# Altium footprint library MicroSMD_50P_V.PcbLib: 85 footprints (part 1 of 7)
Each footprint in its own frame and in the unit in brackets; x right, y up, seen from the top. Pads: shape width x height; smd on the part's side, far side on the other; paste and mask are expansions set on the pad; w line width, h text height; cw(c..) or ccw(c..) is an arc to the next point about the centre after c.
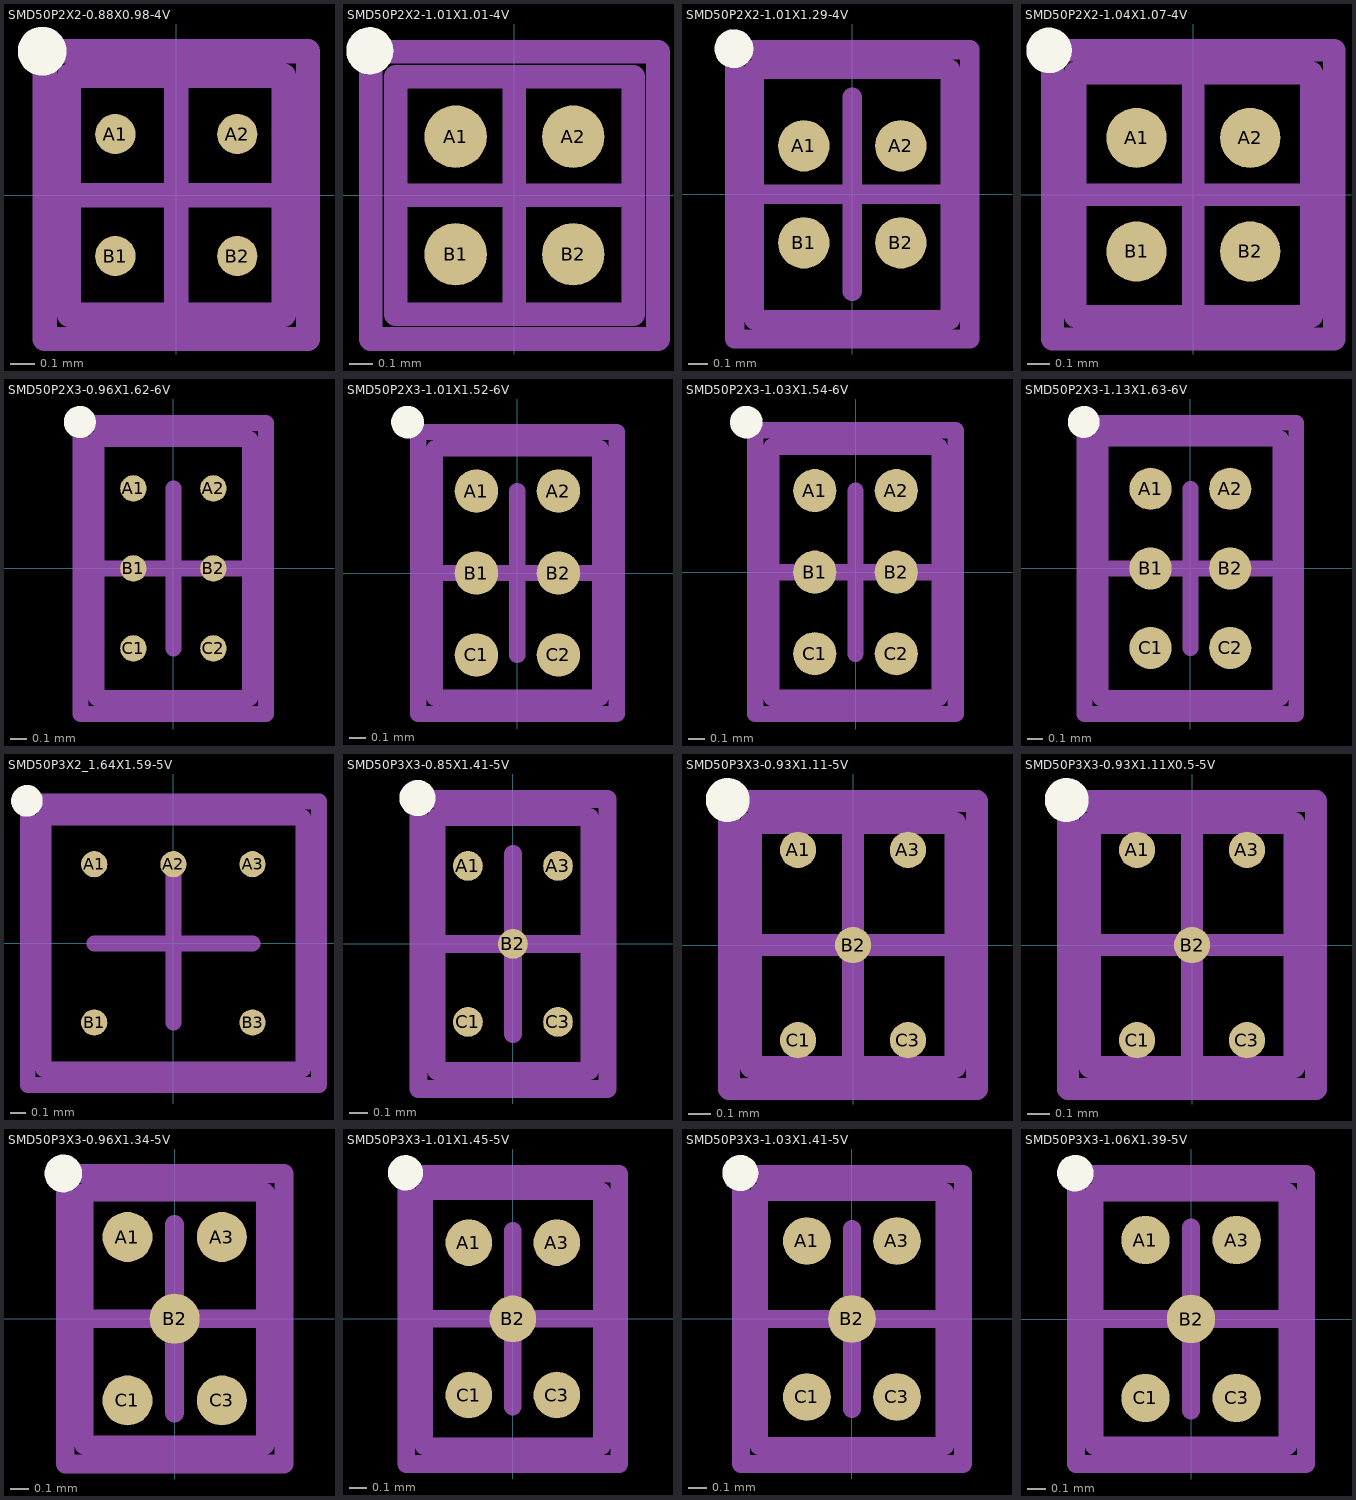
[diagram p0: the footprints below, top view; thin cyan lines are the x and y axes]

## SMD50P2X2-0.88X0.98-4V [mm] "Micro SMD, 4-Leads, Body 0.98x0.88mm, Pitch 0.5mm, NSC Recommended"
height 0.58
pads (4):
  round 0.165 smd paste-0.082 mask+0.05: A1(-0.25,0.25) A2(0.25,0.25) B1(-0.25,-0.25) B2(0.25,-0.25)
Top Overlay:
  circle w0.1: c-0.55,0.59 r0.05
Top Paste:
  circle w0.05: c0.175,0.175 r0.025
  circle w0.05: c0.375,0.375 r0.025
  circle w0.05: c0.175,0.375 r0.025
  circle w0.05: c0.375,0.175 r0.025
  circle w0.05: c0.175,-0.175 r0.025
  circle w0.05: c0.375,-0.375 r0.025
  circle w0.05: c0.375,-0.175 r0.025
  circle w0.05: c0.175,-0.375 r0.025
  circle w0.05: c-0.175,-0.175 r0.025
  circle w0.05: c-0.375,-0.375 r0.025
  circle w0.05: c-0.175,-0.375 r0.025
  circle w0.05: c-0.375,-0.175 r0.025
  circle w0.05: c-0.175,0.175 r0.025
  circle w0.05: c-0.375,0.375 r0.025
  circle w0.05: c-0.375,0.175 r0.025
  circle w0.05: c-0.175,0.375 r0.025
  region: 0.125,0.375 0.125,0.175 0.175,0.175 0.175,0.375
  region: 0.425,0.175 0.425,0.375 0.375,0.375 0.375,0.175
  region: 0.375,0.425 0.175,0.425 0.175,0.375 0.375,0.375
  region: 0.375,0.375 0.175,0.375 0.175,0.175 0.375,0.175
  rectangle: 0.175,0.125 0.375,0.175
  region: 0.375,-0.125 0.175,-0.125 0.175,-0.175 0.375,-0.175
  rectangle: 0.175,-0.425 0.375,-0.375
  region: 0.425,-0.375 0.425,-0.175 0.375,-0.175 0.375,-0.375
  region: 0.375,-0.375 0.375,-0.175 0.175,-0.175 0.175,-0.375
  region: 0.125,-0.175 0.125,-0.375 0.175,-0.375 0.175,-0.175
  region: -0.125,-0.375 -0.125,-0.175 -0.175,-0.175 -0.175,-0.375
  region: -0.425,-0.175 -0.425,-0.375 -0.375,-0.375 -0.375,-0.175
  rectangle: -0.375,-0.425 -0.175,-0.375
  rectangle: -0.375,-0.375 -0.175,-0.175
  region: -0.175,-0.125 -0.375,-0.125 -0.375,-0.175 -0.175,-0.175
  rectangle: -0.375,0.125 -0.175,0.175
  region: -0.175,0.425 -0.375,0.425 -0.375,0.375 -0.175,0.375
  region: -0.425,0.375 -0.425,0.175 -0.375,0.175 -0.375,0.375
  region: -0.375,0.375 -0.375,0.175 -0.175,0.175 -0.175,0.375
  region: -0.125,0.175 -0.125,0.375 -0.175,0.375 -0.175,0.175
Mechanical 13:
  lines w0.1: -0.44,-0.49 -0.44,0.49 0.44,0.49 0.44,-0.49 -0.44,-0.49
Mechanical 15:
  lines w0.1: -0.5,0 0.5,0 ; 0,-0.5 0,0.5 ; -0.54,-0.59 -0.54,0.59 0.54,0.59 0.54,-0.59 -0.54,-0.59
3D body: height 0.58, standoff 0, extent -0.439,-0.489 0.439,0.489

## SMD50P2X2-1.01X1.01-4V [mm] "Micro SMD, 4-Leads, Body 1.01x1.01mm, Pitch 0.5mm, NSC Recommended"
height 0.68
pads (4):
  round 0.265 smd paste-0.132 mask+0.05: A1(-0.25,0.25) A2(0.25,0.25) B1(-0.25,-0.25) B2(0.25,-0.25)
Top Overlay:
  circle w0.1: c-0.615,0.615 r0.05
Top Paste:
  circle w0.05: c0.2,0.2 r0.025
  circle w0.05: c0.35,0.35 r0.025
  circle w0.05: c0.35,0.2 r0.025
  circle w0.05: c0.2,0.35 r0.025
  circle w0.05: c0.2,-0.2 r0.025
  circle w0.05: c0.35,-0.35 r0.025
  circle w0.05: c0.2,-0.35 r0.025
  circle w0.05: c0.35,-0.2 r0.025
  circle w0.05: c-0.2,-0.2 r0.025
  circle w0.05: c-0.35,-0.35 r0.025
  circle w0.05: c-0.35,-0.2 r0.025
  circle w0.05: c-0.2,-0.35 r0.025
  circle w0.05: c-0.2,0.2 r0.025
  circle w0.05: c-0.35,0.35 r0.025
  circle w0.05: c-0.2,0.35 r0.025
  circle w0.05: c-0.35,0.2 r0.025
  region: 0.2,0.35 0.2,0.2 0.35,0.2 0.35,0.35
  region: 0.2,0.2 0.2,0.35 0.15,0.35 0.15,0.2
  rectangle: 0.2,0.35 0.35,0.4
  region: 0.35,0.35 0.35,0.2 0.4,0.2 0.4,0.35
  region: 0.35,0.2 0.2,0.2 0.2,0.15 0.35,0.15
  region: 0.35,-0.2 0.2,-0.2 0.2,-0.35 0.35,-0.35
  rectangle: 0.2,-0.2 0.35,-0.15
  region: 0.35,-0.2 0.35,-0.35 0.4,-0.35 0.4,-0.2
  region: 0.35,-0.35 0.2,-0.35 0.2,-0.4 0.35,-0.4
  region: 0.2,-0.35 0.2,-0.2 0.15,-0.2 0.15,-0.35
  region: -0.2,-0.35 -0.2,-0.2 -0.35,-0.2 -0.35,-0.35
  region: -0.2,-0.2 -0.2,-0.35 -0.15,-0.35 -0.15,-0.2
  region: -0.2,-0.35 -0.35,-0.35 -0.35,-0.4 -0.2,-0.4
  region: -0.35,-0.35 -0.35,-0.2 -0.4,-0.2 -0.4,-0.35
  rectangle: -0.35,-0.2 -0.2,-0.15
  rectangle: -0.35,0.2 -0.2,0.35
  region: -0.2,0.2 -0.35,0.2 -0.35,0.15 -0.2,0.15
  region: -0.35,0.2 -0.35,0.35 -0.4,0.35 -0.4,0.2
  rectangle: -0.35,0.35 -0.2,0.4
  region: -0.2,0.35 -0.2,0.2 -0.15,0.2 -0.15,0.35
Mechanical 13:
  lines w0.1: -0.505,-0.505 0.505,-0.505 0.505,0.505 -0.505,0.505 -0.505,-0.505
Mechanical 15:
  lines w0.1: -0.5,0 0.5,0 ; 0,-0.5 0,0.5 ; -0.61,-0.61 0.61,-0.61 0.61,0.61 -0.61,0.61 -0.61,-0.61
3D body: height 0.68, standoff 0, extent -0.504,-0.504 0.504,0.504

## SMD50P2X2-1.01X1.29-4V [mm] "Micro SMD, 4-Leads, Body 1.29x1.01mm, Pitch 0.5mm, NSC Recommended"
height 0.68
pads (4):
  round 0.265 smd paste-0.132 mask+0.05: A1(-0.25,0.25) A2(0.25,0.25) B1(-0.25,-0.25) B2(0.25,-0.25)
Top Overlay:
  circle w0.1: c-0.61,0.75 r0.05
Top Paste:
  circle w0.05: c0.2,0.2 r0.025
  circle w0.05: c0.35,0.35 r0.025
  circle w0.05: c0.35,0.2 r0.025
  circle w0.05: c0.2,0.35 r0.025
  circle w0.05: c0.2,-0.2 r0.025
  circle w0.05: c0.35,-0.35 r0.025
  circle w0.05: c0.2,-0.35 r0.025
  circle w0.05: c0.35,-0.2 r0.025
  circle w0.05: c-0.2,-0.2 r0.025
  circle w0.05: c-0.35,-0.35 r0.025
  circle w0.05: c-0.35,-0.2 r0.025
  circle w0.05: c-0.2,-0.35 r0.025
  circle w0.05: c-0.2,0.2 r0.025
  circle w0.05: c-0.35,0.35 r0.025
  circle w0.05: c-0.2,0.35 r0.025
  circle w0.05: c-0.35,0.2 r0.025
  region: 0.2,0.35 0.2,0.2 0.35,0.2 0.35,0.35
  region: 0.2,0.2 0.2,0.35 0.15,0.35 0.15,0.2
  rectangle: 0.2,0.35 0.35,0.4
  region: 0.35,0.35 0.35,0.2 0.4,0.2 0.4,0.35
  region: 0.35,0.2 0.2,0.2 0.2,0.15 0.35,0.15
  region: 0.35,-0.2 0.2,-0.2 0.2,-0.35 0.35,-0.35
  rectangle: 0.2,-0.2 0.35,-0.15
  region: 0.35,-0.2 0.35,-0.35 0.4,-0.35 0.4,-0.2
  region: 0.35,-0.35 0.2,-0.35 0.2,-0.4 0.35,-0.4
  region: 0.2,-0.35 0.2,-0.2 0.15,-0.2 0.15,-0.35
  region: -0.2,-0.35 -0.2,-0.2 -0.35,-0.2 -0.35,-0.35
  region: -0.2,-0.2 -0.2,-0.35 -0.15,-0.35 -0.15,-0.2
  region: -0.2,-0.35 -0.35,-0.35 -0.35,-0.4 -0.2,-0.4
  region: -0.35,-0.35 -0.35,-0.2 -0.4,-0.2 -0.4,-0.35
  rectangle: -0.35,-0.2 -0.2,-0.15
  rectangle: -0.35,0.2 -0.2,0.35
  region: -0.2,0.2 -0.35,0.2 -0.35,0.15 -0.2,0.15
  region: -0.35,0.2 -0.35,0.35 -0.4,0.35 -0.4,0.2
  rectangle: -0.35,0.35 -0.2,0.4
  region: -0.2,0.35 -0.2,0.2 -0.15,0.2 -0.15,0.35
Mechanical 13:
  lines w0.1: -0.505,-0.645 0.505,-0.645 0.505,0.645 -0.505,0.645 -0.505,-0.645
Mechanical 15:
  lines w0.1: -0.5,0 0.5,0 ; 0,-0.5 0,0.5 ; -0.605,-0.745 0.605,-0.745 0.605,0.745 -0.605,0.745 -0.605,-0.745
3D body: height 0.68, standoff 0, extent -0.504,-0.644 0.504,0.644

## SMD50P2X2-1.04X1.07-4V [mm] "Micro SMD, 4-Leads, Body 1.07x1.04mm, Pitch 0.5mm, NSC Recommended"
height 0.68
pads (4):
  round 0.265 smd paste-0.132 mask+0.05: A1(-0.25,0.25) A2(0.25,0.25) B1(-0.25,-0.25) B2(0.25,-0.25)
Top Overlay:
  circle w0.1: c-0.635,0.635 r0.05
Top Paste:
  circle w0.05: c-0.35,0.2 r0.025
  circle w0.05: c-0.2,0.35 r0.025
  circle w0.05: c-0.35,0.35 r0.025
  circle w0.05: c-0.2,0.2 r0.025
  circle w0.05: c-0.2,-0.35 r0.025
  circle w0.05: c-0.35,-0.2 r0.025
  circle w0.05: c-0.35,-0.35 r0.025
  circle w0.05: c-0.2,-0.2 r0.025
  circle w0.05: c0.35,-0.2 r0.025
  circle w0.05: c0.2,-0.35 r0.025
  circle w0.05: c0.35,-0.35 r0.025
  circle w0.05: c0.2,-0.2 r0.025
  circle w0.05: c0.2,0.35 r0.025
  circle w0.05: c0.35,0.2 r0.025
  circle w0.05: c0.35,0.35 r0.025
  circle w0.05: c0.2,0.2 r0.025
  region: -0.2,0.35 -0.2,0.2 -0.15,0.2 -0.15,0.35
  rectangle: -0.35,0.35 -0.2,0.4
  region: -0.35,0.2 -0.35,0.35 -0.4,0.35 -0.4,0.2
  region: -0.2,0.2 -0.35,0.2 -0.35,0.15 -0.2,0.15
  rectangle: -0.35,0.2 -0.2,0.35
  rectangle: -0.35,-0.2 -0.2,-0.15
  region: -0.35,-0.35 -0.35,-0.2 -0.4,-0.2 -0.4,-0.35
  region: -0.2,-0.35 -0.35,-0.35 -0.35,-0.4 -0.2,-0.4
  region: -0.2,-0.2 -0.2,-0.35 -0.15,-0.35 -0.15,-0.2
  region: -0.2,-0.35 -0.2,-0.2 -0.35,-0.2 -0.35,-0.35
  region: 0.2,-0.35 0.2,-0.2 0.15,-0.2 0.15,-0.35
  region: 0.35,-0.35 0.2,-0.35 0.2,-0.4 0.35,-0.4
  region: 0.35,-0.2 0.35,-0.35 0.4,-0.35 0.4,-0.2
  rectangle: 0.2,-0.2 0.35,-0.15
  region: 0.35,-0.2 0.2,-0.2 0.2,-0.35 0.35,-0.35
  region: 0.35,0.2 0.2,0.2 0.2,0.15 0.35,0.15
  region: 0.35,0.35 0.35,0.2 0.4,0.2 0.4,0.35
  rectangle: 0.2,0.35 0.35,0.4
  region: 0.2,0.2 0.2,0.35 0.15,0.35 0.15,0.2
  region: 0.2,0.35 0.2,0.2 0.35,0.2 0.35,0.35
Mechanical 13:
  lines w0.1: -0.52,-0.535 -0.52,0.535 0.52,0.535 0.52,-0.535 -0.52,-0.535
Mechanical 15:
  lines w0.1: -0.5,0 0.5,0 ; 0,-0.5 0,0.5 ; -0.62,-0.635 -0.62,0.635 0.62,0.635 0.62,-0.635 -0.62,-0.635
3D body: height 0.68, standoff 0, extent -0.519,-0.534 0.519,0.534

## SMD50P2X3-0.96X1.62-6V [mm] "Micro SMD, 6-Leads, Body 1.62x0.96mm, Pitch 0.5mm, NSC Recommended"
height 0.58
pads (6):
  round 0.165 smd paste-0.082 mask+0.05: A1(-0.25,0.5) A2(0.25,0.5) B1(-0.25,0) B2(0.25,0) C1(-0.25,-0.5) C2(0.25,-0.5)
Top Overlay:
  circle w0.1: c-0.585,0.915 r0.05
Top Paste:
  circle w0.05: c0.175,-0.625 r0.025
  circle w0.05: c0.375,-0.425 r0.025
  circle w0.05: c0.175,-0.425 r0.025
  circle w0.05: c0.375,-0.625 r0.025
  circle w0.05: c-0.375,-0.625 r0.025
  circle w0.05: c-0.175,-0.425 r0.025
  circle w0.05: c-0.375,-0.425 r0.025
  circle w0.05: c-0.175,-0.625 r0.025
  circle w0.05: c0.175,-0.1 r0.025
  circle w0.05: c0.375,0.1 r0.025
  circle w0.05: c0.175,0.1 r0.025
  circle w0.05: c0.375,-0.1 r0.025
  circle w0.05: c-0.375,-0.1 r0.025
  circle w0.05: c-0.175,0.1 r0.025
  circle w0.05: c-0.375,0.1 r0.025
  circle w0.05: c-0.175,-0.1 r0.025
  circle w0.05: c0.175,0.425 r0.025
  circle w0.05: c0.375,0.625 r0.025
  circle w0.05: c0.175,0.625 r0.025
  circle w0.05: c0.375,0.425 r0.025
  circle w0.05: c-0.375,0.425 r0.025
  circle w0.05: c-0.175,0.625 r0.025
  circle w0.05: c-0.375,0.625 r0.025
  circle w0.05: c-0.175,0.425 r0.025
  region: 0.375,-0.625 0.175,-0.625 0.175,-0.675 0.375,-0.675
  rectangle: 0.175,-0.625 0.375,-0.425
  rectangle: 0.175,-0.425 0.375,-0.375
  region: 0.175,-0.625 0.175,-0.425 0.125,-0.425 0.125,-0.625
  region: 0.375,-0.425 0.375,-0.625 0.425,-0.625 0.425,-0.425
  region: -0.175,-0.625 -0.375,-0.625 -0.375,-0.675 -0.175,-0.675
  rectangle: -0.375,-0.625 -0.175,-0.425
  rectangle: -0.375,-0.425 -0.175,-0.375
  region: -0.375,-0.625 -0.375,-0.425 -0.425,-0.425 -0.425,-0.625
  region: -0.175,-0.425 -0.175,-0.625 -0.125,-0.625 -0.125,-0.425
  region: 0.375,-0.1 0.175,-0.1 0.175,-0.15 0.375,-0.15
  rectangle: 0.175,-0.1 0.375,0.1
  rectangle: 0.175,0.1 0.375,0.15
  region: 0.175,-0.1 0.175,0.1 0.125,0.1 0.125,-0.1
  region: 0.375,0.1 0.375,-0.1 0.425,-0.1 0.425,0.1
  region: -0.175,-0.1 -0.375,-0.1 -0.375,-0.15 -0.175,-0.15
  rectangle: -0.375,-0.1 -0.175,0.1
  rectangle: -0.375,0.1 -0.175,0.15
  region: -0.375,-0.1 -0.375,0.1 -0.425,0.1 -0.425,-0.1
  region: -0.175,0.1 -0.175,-0.1 -0.125,-0.1 -0.125,0.1
  region: 0.375,0.425 0.175,0.425 0.175,0.375 0.375,0.375
  rectangle: 0.175,0.425 0.375,0.625
  rectangle: 0.175,0.625 0.375,0.675
  region: 0.175,0.425 0.175,0.625 0.125,0.625 0.125,0.425
  region: 0.375,0.625 0.375,0.425 0.425,0.425 0.425,0.625
  region: -0.175,0.425 -0.375,0.425 -0.375,0.375 -0.175,0.375
  rectangle: -0.375,0.425 -0.175,0.625
  rectangle: -0.375,0.625 -0.175,0.675
  region: -0.375,0.425 -0.375,0.625 -0.425,0.625 -0.425,0.425
  region: -0.175,0.625 -0.175,0.425 -0.125,0.425 -0.125,0.625
Mechanical 13:
  lines w0.1: -0.48,-0.81 0.48,-0.81 0.48,0.81 -0.48,0.81 -0.48,-0.81
Mechanical 15:
  lines w0.1: -0.5,0 0.5,0 ; 0,-0.5 0,0.5 ; -0.58,-0.91 0.58,-0.91 0.58,0.91 -0.58,0.91 -0.58,-0.91
3D body: height 0.58, standoff 0, extent -0.48,-0.81 0.48,0.81

## SMD50P2X3-1.01X1.52-6V [mm] "Micro SMD, 6-Leads, Body 1.52x1.01mm, Pitch 0.5mm, NSC Recommended"
height 1.05
pads (6):
  round 0.265 smd paste-0.132 mask+0.05: A1(-0.25,0.5) A2(0.25,0.5) B1(-0.25,0) B2(0.25,0) C1(-0.25,-0.5) C2(0.25,-0.5)
Top Overlay:
  circle w0.1: c-0.67,0.92 r0.05
Top Paste:
  circle w0.05: c0.35,0.075 r0.025
  circle w0.05: c0.2,-0.075 r0.025
  circle w0.05: c0.35,-0.075 r0.025
  circle w0.05: c0.2,0.075 r0.025
  circle w0.05: c-0.35,-0.075 r0.025
  circle w0.05: c-0.2,0.075 r0.025
  circle w0.05: c-0.35,0.075 r0.025
  circle w0.05: c-0.2,-0.075 r0.025
  circle w0.05: c-0.2,0.45 r0.025
  circle w0.05: c-0.35,0.6 r0.025
  circle w0.05: c-0.2,0.6 r0.025
  circle w0.05: c-0.35,0.45 r0.025
  circle w0.05: c-0.2,-0.45 r0.025
  circle w0.05: c-0.35,-0.6 r0.025
  circle w0.05: c-0.35,-0.45 r0.025
  circle w0.05: c-0.2,-0.6 r0.025
  circle w0.05: c0.2,-0.45 r0.025
  circle w0.05: c0.35,-0.6 r0.025
  circle w0.05: c0.2,-0.6 r0.025
  circle w0.05: c0.35,-0.45 r0.025
  circle w0.05: c0.2,0.45 r0.025
  circle w0.05: c0.35,0.6 r0.025
  circle w0.05: c0.35,0.45 r0.025
  circle w0.05: c0.2,0.6 r0.025
  region: 0.2,-0.075 0.2,0.075 0.15,0.075 0.15,-0.075
  region: 0.35,-0.075 0.2,-0.075 0.2,-0.125 0.35,-0.125
  region: 0.35,0.075 0.35,-0.075 0.4,-0.075 0.4,0.075
  rectangle: 0.2,0.075 0.35,0.125
  region: 0.35,0.075 0.2,0.075 0.2,-0.075 0.35,-0.075
  region: -0.2,0.075 -0.2,-0.075 -0.15,-0.075 -0.15,0.075
  rectangle: -0.35,0.075 -0.2,0.125
  region: -0.35,-0.075 -0.35,0.075 -0.4,0.075 -0.4,-0.075
  region: -0.2,-0.075 -0.35,-0.075 -0.35,-0.125 -0.2,-0.125
  rectangle: -0.35,-0.075 -0.2,0.075
  rectangle: -0.35,0.45 -0.2,0.6
  region: -0.2,0.45 -0.35,0.45 -0.35,0.4 -0.2,0.4
  region: -0.35,0.45 -0.35,0.6 -0.4,0.6 -0.4,0.45
  rectangle: -0.35,0.6 -0.2,0.65
  region: -0.2,0.6 -0.2,0.45 -0.15,0.45 -0.15,0.6
  region: -0.2,-0.6 -0.2,-0.45 -0.35,-0.45 -0.35,-0.6
  region: -0.2,-0.45 -0.2,-0.6 -0.15,-0.6 -0.15,-0.45
  region: -0.2,-0.6 -0.35,-0.6 -0.35,-0.65 -0.2,-0.65
  region: -0.35,-0.6 -0.35,-0.45 -0.4,-0.45 -0.4,-0.6
  rectangle: -0.35,-0.45 -0.2,-0.4
  region: 0.35,-0.45 0.2,-0.45 0.2,-0.6 0.35,-0.6
  rectangle: 0.2,-0.45 0.35,-0.4
  region: 0.35,-0.45 0.35,-0.6 0.4,-0.6 0.4,-0.45
  region: 0.35,-0.6 0.2,-0.6 0.2,-0.65 0.35,-0.65
  region: 0.2,-0.6 0.2,-0.45 0.15,-0.45 0.15,-0.6
  region: 0.2,0.6 0.2,0.45 0.35,0.45 0.35,0.6
  region: 0.2,0.45 0.2,0.6 0.15,0.6 0.15,0.45
  rectangle: 0.2,0.6 0.35,0.65
  region: 0.35,0.6 0.35,0.45 0.4,0.45 0.4,0.6
  region: 0.35,0.45 0.2,0.45 0.2,0.4 0.35,0.4
Mechanical 13:
  lines w0.1: -0.505,-0.76 -0.505,0.76 0.505,0.76 0.505,-0.76 -0.505,-0.76
Mechanical 15:
  lines w0.1: -0.5,0 0.5,0 ; 0,-0.5 0,0.5 ; -0.605,-0.86 -0.605,0.86 0.605,0.86 0.605,-0.86 -0.605,-0.86
3D body: height 1.05, standoff 0, extent -0.504,-0.759 0.504,0.759

## SMD50P2X3-1.03X1.54-6V [mm] "Micro SMD, 6-Leads, Body 1.54x1.03mm, Pitch 0.5mm, NSC Recommended"
height 0.68
pads (6):
  round 0.265 smd paste-0.132 mask+0.05: A1(-0.25,0.5) A2(0.25,0.5) B1(-0.25,0) B2(0.25,0) C1(-0.25,-0.5) C2(0.25,-0.5)
Top Overlay:
  circle w0.1: c-0.67,0.92 r0.05
Top Paste:
  circle w0.05: c0.35,0.075 r0.025
  circle w0.05: c0.2,-0.075 r0.025
  circle w0.05: c0.35,-0.075 r0.025
  circle w0.05: c0.2,0.075 r0.025
  circle w0.05: c-0.35,-0.075 r0.025
  circle w0.05: c-0.2,0.075 r0.025
  circle w0.05: c-0.35,0.075 r0.025
  circle w0.05: c-0.2,-0.075 r0.025
  circle w0.05: c-0.2,0.45 r0.025
  circle w0.05: c-0.35,0.6 r0.025
  circle w0.05: c-0.2,0.6 r0.025
  circle w0.05: c-0.35,0.45 r0.025
  circle w0.05: c-0.2,-0.45 r0.025
  circle w0.05: c-0.35,-0.6 r0.025
  circle w0.05: c-0.35,-0.45 r0.025
  circle w0.05: c-0.2,-0.6 r0.025
  circle w0.05: c0.2,-0.45 r0.025
  circle w0.05: c0.35,-0.6 r0.025
  circle w0.05: c0.2,-0.6 r0.025
  circle w0.05: c0.35,-0.45 r0.025
  circle w0.05: c0.2,0.45 r0.025
  circle w0.05: c0.35,0.6 r0.025
  circle w0.05: c0.35,0.45 r0.025
  circle w0.05: c0.2,0.6 r0.025
  region: 0.2,-0.075 0.2,0.075 0.15,0.075 0.15,-0.075
  region: 0.35,-0.075 0.2,-0.075 0.2,-0.125 0.35,-0.125
  region: 0.35,0.075 0.35,-0.075 0.4,-0.075 0.4,0.075
  rectangle: 0.2,0.075 0.35,0.125
  region: 0.35,0.075 0.2,0.075 0.2,-0.075 0.35,-0.075
  region: -0.2,0.075 -0.2,-0.075 -0.15,-0.075 -0.15,0.075
  rectangle: -0.35,0.075 -0.2,0.125
  region: -0.35,-0.075 -0.35,0.075 -0.4,0.075 -0.4,-0.075
  region: -0.2,-0.075 -0.35,-0.075 -0.35,-0.125 -0.2,-0.125
  rectangle: -0.35,-0.075 -0.2,0.075
  rectangle: -0.35,0.45 -0.2,0.6
  region: -0.2,0.45 -0.35,0.45 -0.35,0.4 -0.2,0.4
  region: -0.35,0.45 -0.35,0.6 -0.4,0.6 -0.4,0.45
  rectangle: -0.35,0.6 -0.2,0.65
  region: -0.2,0.6 -0.2,0.45 -0.15,0.45 -0.15,0.6
  region: -0.2,-0.6 -0.2,-0.45 -0.35,-0.45 -0.35,-0.6
  region: -0.2,-0.45 -0.2,-0.6 -0.15,-0.6 -0.15,-0.45
  region: -0.2,-0.6 -0.35,-0.6 -0.35,-0.65 -0.2,-0.65
  region: -0.35,-0.6 -0.35,-0.45 -0.4,-0.45 -0.4,-0.6
  rectangle: -0.35,-0.45 -0.2,-0.4
  region: 0.35,-0.45 0.2,-0.45 0.2,-0.6 0.35,-0.6
  rectangle: 0.2,-0.45 0.35,-0.4
  region: 0.35,-0.45 0.35,-0.6 0.4,-0.6 0.4,-0.45
  region: 0.35,-0.6 0.2,-0.6 0.2,-0.65 0.35,-0.65
  region: 0.2,-0.6 0.2,-0.45 0.15,-0.45 0.15,-0.6
  region: 0.2,0.6 0.2,0.45 0.35,0.45 0.35,0.6
  region: 0.2,0.45 0.2,0.6 0.15,0.6 0.15,0.45
  rectangle: 0.2,0.6 0.35,0.65
  region: 0.35,0.6 0.35,0.45 0.4,0.45 0.4,0.6
  region: 0.35,0.45 0.2,0.45 0.2,0.4 0.35,0.4
Mechanical 13:
  lines w0.1: -0.515,-0.77 -0.515,0.77 0.515,0.77 0.515,-0.77 -0.515,-0.77
Mechanical 15:
  lines w0.1: -0.5,0 0.5,0 ; 0,-0.5 0,0.5 ; -0.615,-0.87 -0.615,0.87 0.615,0.87 0.615,-0.87 -0.615,-0.87
3D body: height 0.68, standoff 0, extent -0.514,-0.769 0.514,0.769

## SMD50P2X3-1.13X1.63-6V [mm] "Micro SMD, 6-Leads, Body 1.63x1.13mm, Pitch 0.5mm, NSC Recommended"
height 0.4
pads (6):
  round 0.265 smd paste-0.132 mask+0.05: A1(-0.25,0.5) A2(0.25,0.5) B1(-0.25,0) B2(0.25,0) C1(-0.25,-0.5) C2(0.25,-0.5)
Top Overlay:
  circle w0.1: c-0.67,0.92 r0.05
Top Paste:
  circle w0.05: c0.2,0.6 r0.025
  circle w0.05: c0.35,0.45 r0.025
  circle w0.05: c0.35,0.6 r0.025
  circle w0.05: c0.2,0.45 r0.025
  circle w0.05: c0.35,-0.45 r0.025
  circle w0.05: c0.2,-0.6 r0.025
  circle w0.05: c0.35,-0.6 r0.025
  circle w0.05: c0.2,-0.45 r0.025
  circle w0.05: c-0.2,-0.6 r0.025
  circle w0.05: c-0.35,-0.45 r0.025
  circle w0.05: c-0.35,-0.6 r0.025
  circle w0.05: c-0.2,-0.45 r0.025
  circle w0.05: c-0.35,0.45 r0.025
  circle w0.05: c-0.2,0.6 r0.025
  circle w0.05: c-0.35,0.6 r0.025
  circle w0.05: c-0.2,0.45 r0.025
  circle w0.05: c-0.2,-0.075 r0.025
  circle w0.05: c-0.35,0.075 r0.025
  circle w0.05: c-0.2,0.075 r0.025
  circle w0.05: c-0.35,-0.075 r0.025
  circle w0.05: c0.2,0.075 r0.025
  circle w0.05: c0.35,-0.075 r0.025
  circle w0.05: c0.2,-0.075 r0.025
  circle w0.05: c0.35,0.075 r0.025
  region: 0.35,0.45 0.2,0.45 0.2,0.4 0.35,0.4
  region: 0.35,0.6 0.35,0.45 0.4,0.45 0.4,0.6
  rectangle: 0.2,0.6 0.35,0.65
  region: 0.2,0.45 0.2,0.6 0.15,0.6 0.15,0.45
  region: 0.2,0.6 0.2,0.45 0.35,0.45 0.35,0.6
  region: 0.2,-0.6 0.2,-0.45 0.15,-0.45 0.15,-0.6
  region: 0.35,-0.6 0.2,-0.6 0.2,-0.65 0.35,-0.65
  region: 0.35,-0.45 0.35,-0.6 0.4,-0.6 0.4,-0.45
  rectangle: 0.2,-0.45 0.35,-0.4
  region: 0.35,-0.45 0.2,-0.45 0.2,-0.6 0.35,-0.6
  rectangle: -0.35,-0.45 -0.2,-0.4
  region: -0.35,-0.6 -0.35,-0.45 -0.4,-0.45 -0.4,-0.6
  region: -0.2,-0.6 -0.35,-0.6 -0.35,-0.65 -0.2,-0.65
  region: -0.2,-0.45 -0.2,-0.6 -0.15,-0.6 -0.15,-0.45
  region: -0.2,-0.6 -0.2,-0.45 -0.35,-0.45 -0.35,-0.6
  region: -0.2,0.6 -0.2,0.45 -0.15,0.45 -0.15,0.6
  rectangle: -0.35,0.6 -0.2,0.65
  region: -0.35,0.45 -0.35,0.6 -0.4,0.6 -0.4,0.45
  region: -0.2,0.45 -0.35,0.45 -0.35,0.4 -0.2,0.4
  rectangle: -0.35,0.45 -0.2,0.6
  rectangle: -0.35,-0.075 -0.2,0.075
  region: -0.2,-0.075 -0.35,-0.075 -0.35,-0.125 -0.2,-0.125
  region: -0.35,-0.075 -0.35,0.075 -0.4,0.075 -0.4,-0.075
  rectangle: -0.35,0.075 -0.2,0.125
  region: -0.2,0.075 -0.2,-0.075 -0.15,-0.075 -0.15,0.075
  region: 0.35,0.075 0.2,0.075 0.2,-0.075 0.35,-0.075
  rectangle: 0.2,0.075 0.35,0.125
  region: 0.35,0.075 0.35,-0.075 0.4,-0.075 0.4,0.075
  region: 0.35,-0.075 0.2,-0.075 0.2,-0.125 0.35,-0.125
  region: 0.2,-0.075 0.2,0.075 0.15,0.075 0.15,-0.075
Mechanical 13:
  lines w0.1: -0.565,-0.815 -0.565,0.815 0.565,0.815 0.565,-0.815 -0.565,-0.815
Mechanical 15:
  lines w0.1: -0.5,0 0.5,0 ; 0,-0.5 0,0.5 ; -0.665,-0.915 -0.665,0.915 0.665,0.915 0.665,-0.915 -0.665,-0.915
3D body: height 0.4, standoff 0, extent -0.564,-0.814 0.564,0.814

## SMD50P3X2_1.64X1.59-5V [mm] "Micro SMD, 5-Leads, Body 1.59x1.64mm, Pitch 0.5mm, NSC Recommended"
height 0.58
pads (5):
  round 0.165 smd paste-0.082 mask+0.05: A1(-0.5,0.5) A2(0,0.5) A3(0.5,0.5) B1(-0.5,-0.5) B3(0.5,-0.5)
Top Overlay:
  circle w0.1: c-0.925,0.9 r0.05
Top Paste:
  circle w0.05: c0.1,0.425 r0.025
  circle w0.05: c-0.1,0.625 r0.025
  circle w0.05: c0.1,0.625 r0.025
  circle w0.05: c-0.1,0.425 r0.025
  circle w0.05: c-0.625,0.425 r0.025
  circle w0.05: c-0.425,0.625 r0.025
  circle w0.05: c-0.625,0.625 r0.025
  circle w0.05: c-0.425,0.425 r0.025
  circle w0.05: c0.425,0.425 r0.025
  circle w0.05: c0.625,0.625 r0.025
  circle w0.05: c0.425,0.625 r0.025
  circle w0.05: c0.625,0.425 r0.025
  circle w0.05: c-0.425,-0.625 r0.025
  circle w0.05: c-0.625,-0.425 r0.025
  circle w0.05: c-0.425,-0.425 r0.025
  circle w0.05: c-0.625,-0.625 r0.025
  circle w0.05: c0.425,-0.625 r0.025
  circle w0.05: c0.625,-0.425 r0.025
  circle w0.05: c0.425,-0.425 r0.025
  circle w0.05: c0.625,-0.625 r0.025
  region: 0.1,0.625 0.1,0.425 0.15,0.425 0.15,0.625
  region: -0.1,0.425 -0.1,0.625 -0.15,0.625 -0.15,0.425
  rectangle: -0.1,0.625 0.1,0.675
  rectangle: -0.1,0.425 0.1,0.625
  region: 0.1,0.425 -0.1,0.425 -0.1,0.375 0.1,0.375
  region: -0.425,0.425 -0.625,0.425 -0.625,0.375 -0.425,0.375
  rectangle: -0.625,0.425 -0.425,0.625
  rectangle: -0.625,0.625 -0.425,0.675
  region: -0.625,0.425 -0.625,0.625 -0.675,0.625 -0.675,0.425
  region: -0.425,0.625 -0.425,0.425 -0.375,0.425 -0.375,0.625
  region: 0.625,0.425 0.425,0.425 0.425,0.375 0.625,0.375
  rectangle: 0.425,0.425 0.625,0.625
  rectangle: 0.425,0.625 0.625,0.675
  region: 0.425,0.425 0.425,0.625 0.375,0.625 0.375,0.425
  region: 0.625,0.625 0.625,0.425 0.675,0.425 0.675,0.625
  region: -0.425,-0.425 -0.425,-0.625 -0.375,-0.625 -0.375,-0.425
  region: -0.625,-0.625 -0.625,-0.425 -0.675,-0.425 -0.675,-0.625
  rectangle: -0.625,-0.425 -0.425,-0.375
  rectangle: -0.625,-0.625 -0.425,-0.425
  region: -0.425,-0.625 -0.625,-0.625 -0.625,-0.675 -0.425,-0.675
  region: 0.625,-0.625 0.425,-0.625 0.425,-0.675 0.625,-0.675
  rectangle: 0.425,-0.625 0.625,-0.425
  rectangle: 0.425,-0.425 0.625,-0.375
  region: 0.425,-0.625 0.425,-0.425 0.375,-0.425 0.375,-0.625
  region: 0.625,-0.425 0.625,-0.625 0.675,-0.625 0.675,-0.425
Mechanical 13:
  lines w0.1: -0.82,-0.795 0.82,-0.795 0.82,0.795 -0.82,0.795 -0.82,-0.795
Mechanical 15:
  lines w0.1: -0.5,0 0.5,0 ; 0,-0.5 0,0.5 ; -0.92,-0.895 -0.92,0.895 0.92,0.895 0.92,-0.895 -0.92,-0.895
3D body: height 0.58, standoff 0, extent -0.819,-0.794 0.819,0.794

## SMD50P3X3-0.85X1.41-5V [mm] "Micro SMD, 5-Leads, Body 1.41x0.85mm, Pitch 0.5mm, NSC Recommended"
height 1
pads (5):
  round 0.165 smd paste-0.082 mask+0.05: A1(-0.25,0.433) A3(0.25,0.433) B2(0,0) C1(-0.25,-0.433) C3(0.25,-0.433)
Top Overlay:
  circle w0.1: c-0.53,0.81 r0.05
Top Paste:
  circle w0.05: c-0.375,0.358 r0.025
  circle w0.05: c-0.175,0.558 r0.025
  circle w0.05: c-0.375,0.558 r0.025
  circle w0.05: c-0.175,0.358 r0.025
  circle w0.05: c-0.175,-0.558 r0.025
  circle w0.05: c-0.375,-0.358 r0.025
  circle w0.05: c-0.375,-0.558 r0.025
  circle w0.05: c-0.175,-0.358 r0.025
  circle w0.05: c0.375,-0.358 r0.025
  circle w0.05: c0.175,-0.558 r0.025
  circle w0.05: c0.375,-0.558 r0.025
  circle w0.05: c0.175,-0.358 r0.025
  circle w0.05: c0.175,0.558 r0.025
  circle w0.05: c0.375,0.358 r0.025
  circle w0.05: c0.375,0.558 r0.025
  circle w0.05: c0.175,0.358 r0.025
  circle w0.05: c0.1,-0.1 r0.025
  circle w0.05: c-0.1,0.1 r0.025
  circle w0.05: c0.1,0.1 r0.025
  circle w0.05: c-0.1,-0.1 r0.025
  region: -0.175,0.358 -0.375,0.358 -0.375,0.308 -0.175,0.308
  rectangle: -0.375,0.358 -0.175,0.558
  rectangle: -0.375,0.558 -0.175,0.608
  region: -0.375,0.358 -0.375,0.558 -0.425,0.558 -0.425,0.358
  region: -0.175,0.558 -0.175,0.358 -0.125,0.358 -0.125,0.558
  region: -0.175,-0.358 -0.175,-0.558 -0.125,-0.558 -0.125,-0.358
  region: -0.175,-0.558 -0.175,-0.358 -0.375,-0.358 -0.375,-0.558
  region: -0.375,-0.558 -0.375,-0.358 -0.425,-0.358 -0.425,-0.558
  region: -0.175,-0.558 -0.375,-0.558 -0.375,-0.608 -0.175,-0.608
  rectangle: -0.375,-0.358 -0.175,-0.308
  rectangle: 0.175,-0.358 0.375,-0.308
  region: 0.375,-0.358 0.175,-0.358 0.175,-0.558 0.375,-0.558
  region: 0.375,-0.558 0.175,-0.558 0.175,-0.608 0.375,-0.608
  region: 0.375,-0.358 0.375,-0.558 0.425,-0.558 0.425,-0.358
  region: 0.175,-0.558 0.175,-0.358 0.125,-0.358 0.125,-0.558
  region: 0.175,0.358 0.175,0.558 0.125,0.558 0.125,0.358
  region: 0.175,0.558 0.175,0.358 0.375,0.358 0.375,0.558
  region: 0.375,0.558 0.375,0.358 0.425,0.358 0.425,0.558
  rectangle: 0.175,0.558 0.375,0.608
  region: 0.375,0.358 0.175,0.358 0.175,0.308 0.375,0.308
  region: 0.1,0.1 0.1,-0.1 0.15,-0.1 0.15,0.1
  region: -0.1,-0.1 -0.1,0.1 -0.15,0.1 -0.15,-0.1
  rectangle: -0.1,0.1 0.1,0.15
  rectangle: -0.1,-0.1 0.1,0.1
  region: 0.1,-0.1 -0.1,-0.1 -0.1,-0.15 0.1,-0.15
Mechanical 13:
  lines w0.1: -0.425,-0.705 -0.425,0.705 0.425,0.705 0.425,-0.705 -0.425,-0.705
Mechanical 15:
  lines w0.1: -0.5,0 0.5,0 ; 0,-0.5 0,0.5 ; -0.525,-0.805 0.525,-0.805 0.525,0.805 -0.525,0.805 -0.525,-0.805
3D body: height 1, standoff 0, extent -0.424,-0.704 0.424,0.704

## SMD50P3X3-0.93X1.11-5V [mm] "Micro SMD, 5-Leads, Body 1.11x0.93mm, Pitch 0.5mm, NSC Recommended"
height 0.95
pads (5):
  round 0.165 smd paste-0.082 mask+0.05: A1(-0.25,0.433) A3(0.25,0.433) B2(0,0) C1(-0.25,-0.433) C3(0.25,-0.433)
Top Overlay:
  circle w0.1: c-0.57,0.66 r0.05
Top Paste:
  circle w0.05: c-0.375,0.358 r0.025
  circle w0.05: c-0.175,0.558 r0.025
  circle w0.05: c-0.375,0.558 r0.025
  circle w0.05: c-0.175,0.358 r0.025
  circle w0.05: c-0.175,-0.558 r0.025
  circle w0.05: c-0.375,-0.358 r0.025
  circle w0.05: c-0.375,-0.558 r0.025
  circle w0.05: c-0.175,-0.358 r0.025
  circle w0.05: c0.375,-0.358 r0.025
  circle w0.05: c0.175,-0.558 r0.025
  circle w0.05: c0.375,-0.558 r0.025
  circle w0.05: c0.175,-0.358 r0.025
  circle w0.05: c0.175,0.558 r0.025
  circle w0.05: c0.375,0.358 r0.025
  circle w0.05: c0.375,0.558 r0.025
  circle w0.05: c0.175,0.358 r0.025
  circle w0.05: c0.1,-0.1 r0.025
  circle w0.05: c-0.1,0.1 r0.025
  circle w0.05: c0.1,0.1 r0.025
  circle w0.05: c-0.1,-0.1 r0.025
  region: -0.175,0.358 -0.375,0.358 -0.375,0.308 -0.175,0.308
  rectangle: -0.375,0.358 -0.175,0.558
  rectangle: -0.375,0.558 -0.175,0.608
  region: -0.375,0.358 -0.375,0.558 -0.425,0.558 -0.425,0.358
  region: -0.175,0.558 -0.175,0.358 -0.125,0.358 -0.125,0.558
  region: -0.175,-0.358 -0.175,-0.558 -0.125,-0.558 -0.125,-0.358
  region: -0.175,-0.558 -0.175,-0.358 -0.375,-0.358 -0.375,-0.558
  region: -0.375,-0.558 -0.375,-0.358 -0.425,-0.358 -0.425,-0.558
  region: -0.175,-0.558 -0.375,-0.558 -0.375,-0.608 -0.175,-0.608
  rectangle: -0.375,-0.358 -0.175,-0.308
  rectangle: 0.175,-0.358 0.375,-0.308
  region: 0.375,-0.358 0.175,-0.358 0.175,-0.558 0.375,-0.558
  region: 0.375,-0.558 0.175,-0.558 0.175,-0.608 0.375,-0.608
  region: 0.375,-0.358 0.375,-0.558 0.425,-0.558 0.425,-0.358
  region: 0.175,-0.558 0.175,-0.358 0.125,-0.358 0.125,-0.558
  region: 0.175,0.358 0.175,0.558 0.125,0.558 0.125,0.358
  region: 0.175,0.558 0.175,0.358 0.375,0.358 0.375,0.558
  region: 0.375,0.558 0.375,0.358 0.425,0.358 0.425,0.558
  rectangle: 0.175,0.558 0.375,0.608
  region: 0.375,0.358 0.175,0.358 0.175,0.308 0.375,0.308
  region: 0.1,0.1 0.1,-0.1 0.15,-0.1 0.15,0.1
  region: -0.1,-0.1 -0.1,0.1 -0.15,0.1 -0.15,-0.1
  rectangle: -0.1,0.1 0.1,0.15
  rectangle: -0.1,-0.1 0.1,0.1
  region: 0.1,-0.1 -0.1,-0.1 -0.1,-0.15 0.1,-0.15
Mechanical 13:
  lines w0.1: -0.465,-0.555 0.465,-0.555 0.465,0.555 -0.465,0.555 -0.465,-0.555
Mechanical 15:
  lines w0.1: -0.5,0 0.5,0 ; 0,-0.5 0,0.5 ; -0.565,-0.655 0.565,-0.655 0.565,0.655 -0.565,0.655 -0.565,-0.655
3D body: height 0.95, standoff 0, extent -0.464,-0.552 0.464,0.557

## SMD50P3X3-0.93X1.11X0.5-5V [mm] "Micro SMD, 5-Leads, Body 1.11x0.93mm, Pitch 0.5mm, NSC Recommended"
height 0.58
pads (5):
  round 0.165 smd paste-0.082 mask+0.05: A1(-0.25,0.433) A3(0.25,0.433) B2(0,0) C1(-0.25,-0.433) C3(0.25,-0.433)
Top Overlay:
  circle w0.1: c-0.57,0.66 r0.05
Top Paste:
  circle w0.05: c-0.375,0.358 r0.025
  circle w0.05: c-0.175,0.558 r0.025
  circle w0.05: c-0.375,0.558 r0.025
  circle w0.05: c-0.175,0.358 r0.025
  circle w0.05: c-0.175,-0.558 r0.025
  circle w0.05: c-0.375,-0.358 r0.025
  circle w0.05: c-0.375,-0.558 r0.025
  circle w0.05: c-0.175,-0.358 r0.025
  circle w0.05: c0.375,-0.358 r0.025
  circle w0.05: c0.175,-0.558 r0.025
  circle w0.05: c0.375,-0.558 r0.025
  circle w0.05: c0.175,-0.358 r0.025
  circle w0.05: c0.175,0.558 r0.025
  circle w0.05: c0.375,0.358 r0.025
  circle w0.05: c0.375,0.558 r0.025
  circle w0.05: c0.175,0.358 r0.025
  circle w0.05: c0.1,-0.1 r0.025
  circle w0.05: c-0.1,0.1 r0.025
  circle w0.05: c0.1,0.1 r0.025
  circle w0.05: c-0.1,-0.1 r0.025
  region: -0.175,0.358 -0.375,0.358 -0.375,0.308 -0.175,0.308
  rectangle: -0.375,0.358 -0.175,0.558
  rectangle: -0.375,0.558 -0.175,0.608
  region: -0.375,0.358 -0.375,0.558 -0.425,0.558 -0.425,0.358
  region: -0.175,0.558 -0.175,0.358 -0.125,0.358 -0.125,0.558
  region: -0.175,-0.358 -0.175,-0.558 -0.125,-0.558 -0.125,-0.358
  region: -0.175,-0.558 -0.175,-0.358 -0.375,-0.358 -0.375,-0.558
  region: -0.375,-0.558 -0.375,-0.358 -0.425,-0.358 -0.425,-0.558
  region: -0.175,-0.558 -0.375,-0.558 -0.375,-0.608 -0.175,-0.608
  rectangle: -0.375,-0.358 -0.175,-0.308
  rectangle: 0.175,-0.358 0.375,-0.308
  region: 0.375,-0.358 0.175,-0.358 0.175,-0.558 0.375,-0.558
  region: 0.375,-0.558 0.175,-0.558 0.175,-0.608 0.375,-0.608
  region: 0.375,-0.358 0.375,-0.558 0.425,-0.558 0.425,-0.358
  region: 0.175,-0.558 0.175,-0.358 0.125,-0.358 0.125,-0.558
  region: 0.175,0.358 0.175,0.558 0.125,0.558 0.125,0.358
  region: 0.175,0.558 0.175,0.358 0.375,0.358 0.375,0.558
  region: 0.375,0.558 0.375,0.358 0.425,0.358 0.425,0.558
  rectangle: 0.175,0.558 0.375,0.608
  region: 0.375,0.358 0.175,0.358 0.175,0.308 0.375,0.308
  region: 0.1,0.1 0.1,-0.1 0.15,-0.1 0.15,0.1
  region: -0.1,-0.1 -0.1,0.1 -0.15,0.1 -0.15,-0.1
  rectangle: -0.1,0.1 0.1,0.15
  rectangle: -0.1,-0.1 0.1,0.1
  region: 0.1,-0.1 -0.1,-0.1 -0.1,-0.15 0.1,-0.15
Mechanical 13:
  lines w0.1: -0.465,-0.555 -0.465,0.555 0.465,0.555 0.465,-0.555 -0.465,-0.555
Mechanical 15:
  lines w0.1: -0.5,0 0.5,0 ; 0,-0.5 0,0.5 ; -0.565,-0.655 -0.565,0.655 0.565,0.655 0.565,-0.655 -0.565,-0.655
3D body: height 0.58, standoff 0, extent -0.464,-0.554 0.464,0.554

## SMD50P3X3-0.96X1.34-5V [mm] "Micro SMD, 5-Leads, Body 1.34x0.96mm, Pitch 0.5mm, NSC Recommended"
height 0.68
pads (5):
  round 0.265 smd paste-0.132 mask+0.05: A1(-0.25,0.433) A3(0.25,0.433) B2(0,0) C1(-0.25,-0.433) C3(0.25,-0.433)
Top Overlay:
  circle w0.1: c-0.59,0.77 r0.05
Top Paste:
  circle w0.05: c-0.075,-0.075 r0.025
  circle w0.05: c0.075,0.075 r0.025
  circle w0.05: c0.075,-0.075 r0.025
  circle w0.05: c-0.075,0.075 r0.025
  circle w0.05: c0.2,0.533 r0.025
  circle w0.05: c0.35,0.383 r0.025
  circle w0.05: c0.35,0.533 r0.025
  circle w0.05: c0.2,0.383 r0.025
  circle w0.05: c0.35,-0.383 r0.025
  circle w0.05: c0.2,-0.533 r0.025
  circle w0.05: c0.35,-0.533 r0.025
  circle w0.05: c0.2,-0.383 r0.025
  circle w0.05: c-0.2,-0.533 r0.025
  circle w0.05: c-0.35,-0.383 r0.025
  circle w0.05: c-0.35,-0.533 r0.025
  circle w0.05: c-0.2,-0.383 r0.025
  circle w0.05: c-0.35,0.383 r0.025
  circle w0.05: c-0.2,0.533 r0.025
  circle w0.05: c-0.35,0.533 r0.025
  circle w0.05: c-0.2,0.383 r0.025
  region: -0.075,0.075 -0.075,-0.075 0.075,-0.075 0.075,0.075
  region: -0.075,-0.075 -0.075,0.075 -0.125,0.075 -0.125,-0.075
  rectangle: -0.075,0.075 0.075,0.125
  region: 0.075,0.075 0.075,-0.075 0.125,-0.075 0.125,0.075
  region: 0.075,-0.075 -0.075,-0.075 -0.075,-0.125 0.075,-0.125
  region: 0.35,0.383 0.2,0.383 0.2,0.333 0.35,0.333
  region: 0.35,0.533 0.35,0.383 0.4,0.383 0.4,0.533
  rectangle: 0.2,0.533 0.35,0.583
  region: 0.2,0.383 0.2,0.533 0.15,0.533 0.15,0.383
  region: 0.2,0.533 0.2,0.383 0.35,0.383 0.35,0.533
  region: 0.2,-0.533 0.2,-0.383 0.15,-0.383 0.15,-0.533
  region: 0.35,-0.533 0.2,-0.533 0.2,-0.583 0.35,-0.583
  region: 0.35,-0.383 0.35,-0.533 0.4,-0.533 0.4,-0.383
  rectangle: 0.2,-0.383 0.35,-0.333
  region: 0.35,-0.383 0.2,-0.383 0.2,-0.533 0.35,-0.533
  rectangle: -0.35,-0.383 -0.2,-0.333
  region: -0.35,-0.533 -0.35,-0.383 -0.4,-0.383 -0.4,-0.533
  region: -0.2,-0.533 -0.35,-0.533 -0.35,-0.583 -0.2,-0.583
  region: -0.2,-0.383 -0.2,-0.533 -0.15,-0.533 -0.15,-0.383
  region: -0.2,-0.533 -0.2,-0.383 -0.35,-0.383 -0.35,-0.533
  region: -0.2,0.533 -0.2,0.383 -0.15,0.383 -0.15,0.533
  rectangle: -0.35,0.533 -0.2,0.583
  region: -0.35,0.383 -0.35,0.533 -0.4,0.533 -0.4,0.383
  region: -0.2,0.383 -0.35,0.383 -0.35,0.333 -0.2,0.333
  rectangle: -0.35,0.383 -0.2,0.533
Mechanical 13:
  lines w0.1: -0.48,-0.67 -0.48,0.67 0.48,0.67 0.48,-0.67 -0.48,-0.67
Mechanical 15:
  lines w0.1: -0.5,0 0.5,0 ; 0,-0.5 0,0.5 ; -0.58,-0.77 -0.58,0.77 0.58,0.77 0.58,-0.77 -0.58,-0.77
3D body: height 0.68, standoff 0, extent -0.479,-0.669 0.479,0.669

## SMD50P3X3-1.01X1.45-5V [mm] "Micro SMD, 5-Leads, Body 1.45x1.01mm, Pitch 0.5mm, NSC Recommended"
height 0.68
pads (5):
  round 0.265 smd paste-0.132 mask+0.05: A1(-0.25,0.433) A3(0.25,0.433) B2(0,0) C1(-0.25,-0.433) C3(0.25,-0.433)
Top Overlay:
  circle w0.1: c-0.61,0.83 r0.05
Top Paste:
  circle w0.05: c-0.075,-0.075 r0.025
  circle w0.05: c0.075,0.075 r0.025
  circle w0.05: c0.075,-0.075 r0.025
  circle w0.05: c-0.075,0.075 r0.025
  circle w0.05: c0.2,0.533 r0.025
  circle w0.05: c0.35,0.383 r0.025
  circle w0.05: c0.35,0.533 r0.025
  circle w0.05: c0.2,0.383 r0.025
  circle w0.05: c0.35,-0.383 r0.025
  circle w0.05: c0.2,-0.533 r0.025
  circle w0.05: c0.35,-0.533 r0.025
  circle w0.05: c0.2,-0.383 r0.025
  circle w0.05: c-0.2,-0.533 r0.025
  circle w0.05: c-0.35,-0.383 r0.025
  circle w0.05: c-0.35,-0.533 r0.025
  circle w0.05: c-0.2,-0.383 r0.025
  circle w0.05: c-0.35,0.383 r0.025
  circle w0.05: c-0.2,0.533 r0.025
  circle w0.05: c-0.35,0.533 r0.025
  circle w0.05: c-0.2,0.383 r0.025
  region: -0.075,0.075 -0.075,-0.075 0.075,-0.075 0.075,0.075
  region: -0.075,-0.075 -0.075,0.075 -0.125,0.075 -0.125,-0.075
  rectangle: -0.075,0.075 0.075,0.125
  region: 0.075,0.075 0.075,-0.075 0.125,-0.075 0.125,0.075
  region: 0.075,-0.075 -0.075,-0.075 -0.075,-0.125 0.075,-0.125
  region: 0.35,0.383 0.2,0.383 0.2,0.333 0.35,0.333
  region: 0.35,0.533 0.35,0.383 0.4,0.383 0.4,0.533
  rectangle: 0.2,0.533 0.35,0.583
  region: 0.2,0.383 0.2,0.533 0.15,0.533 0.15,0.383
  region: 0.2,0.533 0.2,0.383 0.35,0.383 0.35,0.533
  region: 0.2,-0.533 0.2,-0.383 0.15,-0.383 0.15,-0.533
  region: 0.35,-0.533 0.2,-0.533 0.2,-0.583 0.35,-0.583
  region: 0.35,-0.383 0.35,-0.533 0.4,-0.533 0.4,-0.383
  rectangle: 0.2,-0.383 0.35,-0.333
  region: 0.35,-0.383 0.2,-0.383 0.2,-0.533 0.35,-0.533
  rectangle: -0.35,-0.383 -0.2,-0.333
  region: -0.35,-0.533 -0.35,-0.383 -0.4,-0.383 -0.4,-0.533
  region: -0.2,-0.533 -0.35,-0.533 -0.35,-0.583 -0.2,-0.583
  region: -0.2,-0.383 -0.2,-0.533 -0.15,-0.533 -0.15,-0.383
  region: -0.2,-0.533 -0.2,-0.383 -0.35,-0.383 -0.35,-0.533
  region: -0.2,0.533 -0.2,0.383 -0.15,0.383 -0.15,0.533
  rectangle: -0.35,0.533 -0.2,0.583
  region: -0.35,0.383 -0.35,0.533 -0.4,0.533 -0.4,0.383
  region: -0.2,0.383 -0.35,0.383 -0.35,0.333 -0.2,0.333
  rectangle: -0.35,0.383 -0.2,0.533
Mechanical 13:
  lines w0.1: -0.505,-0.725 0.505,-0.725 0.505,0.725 -0.505,0.725 -0.505,-0.725
Mechanical 15:
  lines w0.1: -0.5,0 0.5,0 ; 0,-0.5 0,0.5 ; -0.605,-0.825 0.605,-0.825 0.605,0.825 -0.605,0.825 -0.605,-0.825
3D body: height 0.68, standoff 0, extent -0.504,-0.724 0.504,0.724

## SMD50P3X3-1.03X1.41-5V [mm] "Micro SMD, 5-Leads, Body 1.41x1.03mm, Pitch 0.5mm, NSC Recommended"
height 0.68
pads (5):
  round 0.265 smd paste-0.132 mask+0.05: A1(-0.25,0.433) A3(0.25,0.433) B2(0,0) C1(-0.25,-0.433) C3(0.25,-0.433)
Top Overlay:
  circle w0.1: c-0.62,0.81 r0.05
Top Paste:
  circle w0.05: c-0.075,-0.075 r0.025
  circle w0.05: c0.075,0.075 r0.025
  circle w0.05: c0.075,-0.075 r0.025
  circle w0.05: c-0.075,0.075 r0.025
  circle w0.05: c0.2,0.533 r0.025
  circle w0.05: c0.35,0.383 r0.025
  circle w0.05: c0.35,0.533 r0.025
  circle w0.05: c0.2,0.383 r0.025
  circle w0.05: c0.35,-0.383 r0.025
  circle w0.05: c0.2,-0.533 r0.025
  circle w0.05: c0.35,-0.533 r0.025
  circle w0.05: c0.2,-0.383 r0.025
  circle w0.05: c-0.2,-0.533 r0.025
  circle w0.05: c-0.35,-0.383 r0.025
  circle w0.05: c-0.35,-0.533 r0.025
  circle w0.05: c-0.2,-0.383 r0.025
  circle w0.05: c-0.35,0.383 r0.025
  circle w0.05: c-0.2,0.533 r0.025
  circle w0.05: c-0.35,0.533 r0.025
  circle w0.05: c-0.2,0.383 r0.025
  region: -0.075,0.075 -0.075,-0.075 0.075,-0.075 0.075,0.075
  region: -0.075,-0.075 -0.075,0.075 -0.125,0.075 -0.125,-0.075
  rectangle: -0.075,0.075 0.075,0.125
  region: 0.075,0.075 0.075,-0.075 0.125,-0.075 0.125,0.075
  region: 0.075,-0.075 -0.075,-0.075 -0.075,-0.125 0.075,-0.125
  region: 0.35,0.383 0.2,0.383 0.2,0.333 0.35,0.333
  region: 0.35,0.533 0.35,0.383 0.4,0.383 0.4,0.533
  rectangle: 0.2,0.533 0.35,0.583
  region: 0.2,0.383 0.2,0.533 0.15,0.533 0.15,0.383
  region: 0.2,0.533 0.2,0.383 0.35,0.383 0.35,0.533
  region: 0.2,-0.533 0.2,-0.383 0.15,-0.383 0.15,-0.533
  region: 0.35,-0.533 0.2,-0.533 0.2,-0.583 0.35,-0.583
  region: 0.35,-0.383 0.35,-0.533 0.4,-0.533 0.4,-0.383
  rectangle: 0.2,-0.383 0.35,-0.333
  region: 0.35,-0.383 0.2,-0.383 0.2,-0.533 0.35,-0.533
  rectangle: -0.35,-0.383 -0.2,-0.333
  region: -0.35,-0.533 -0.35,-0.383 -0.4,-0.383 -0.4,-0.533
  region: -0.2,-0.533 -0.35,-0.533 -0.35,-0.583 -0.2,-0.583
  region: -0.2,-0.383 -0.2,-0.533 -0.15,-0.533 -0.15,-0.383
  region: -0.2,-0.533 -0.2,-0.383 -0.35,-0.383 -0.35,-0.533
  region: -0.2,0.533 -0.2,0.383 -0.15,0.383 -0.15,0.533
  rectangle: -0.35,0.533 -0.2,0.583
  region: -0.35,0.383 -0.35,0.533 -0.4,0.533 -0.4,0.383
  region: -0.2,0.383 -0.35,0.383 -0.35,0.333 -0.2,0.333
  rectangle: -0.35,0.383 -0.2,0.533
Mechanical 13:
  lines w0.1: -0.515,-0.705 -0.515,0.705 0.515,0.705 0.515,-0.705 -0.515,-0.705
Mechanical 15:
  lines w0.1: -0.5,0 0.5,0 ; 0,-0.5 0,0.5 ; -0.615,-0.805 -0.615,0.805 0.615,0.805 0.615,-0.805 -0.615,-0.805
3D body: height 0.68, standoff 0, extent -0.514,-0.704 0.514,0.704

## SMD50P3X3-1.06X1.39-5V [mm] "Micro SMD, 5-Leads, Body 1.39x1.06mm, Pitch 0.5mm, NSC Recommended"
height 0.68
pads (5):
  round 0.265 smd paste-0.132 mask+0.05: A1(-0.25,0.433) A3(0.25,0.433) B2(0,0) C1(-0.25,-0.433) C3(0.25,-0.433)
Top Overlay:
  circle w0.1: c-0.635,0.8 r0.05
Top Paste:
  circle w0.05: c-0.35,0.383 r0.025
  circle w0.05: c-0.2,0.533 r0.025
  circle w0.05: c-0.2,0.383 r0.025
  circle w0.05: c-0.35,0.533 r0.025
  circle w0.05: c0.2,0.383 r0.025
  circle w0.05: c0.35,0.533 r0.025
  circle w0.05: c0.35,0.383 r0.025
  circle w0.05: c0.2,0.533 r0.025
  circle w0.05: c-0.075,-0.075 r0.025
  circle w0.05: c0.075,0.075 r0.025
  circle w0.05: c0.075,-0.075 r0.025
  circle w0.05: c-0.075,0.075 r0.025
  circle w0.05: c-0.35,-0.533 r0.025
  circle w0.05: c-0.2,-0.383 r0.025
  circle w0.05: c-0.2,-0.533 r0.025
  circle w0.05: c-0.35,-0.383 r0.025
  circle w0.05: c0.2,-0.533 r0.025
  circle w0.05: c0.35,-0.383 r0.025
  circle w0.05: c0.35,-0.533 r0.025
  circle w0.05: c0.2,-0.383 r0.025
  region: -0.35,0.533 -0.35,0.383 -0.2,0.383 -0.2,0.533
  region: -0.35,0.383 -0.35,0.533 -0.4,0.533 -0.4,0.383
  rectangle: -0.35,0.533 -0.2,0.583
  region: -0.2,0.533 -0.2,0.383 -0.15,0.383 -0.15,0.533
  region: -0.2,0.383 -0.35,0.383 -0.35,0.333 -0.2,0.333
  region: 0.2,0.533 0.2,0.383 0.35,0.383 0.35,0.533
  region: 0.2,0.383 0.2,0.533 0.15,0.533 0.15,0.383
  rectangle: 0.2,0.533 0.35,0.583
  region: 0.35,0.533 0.35,0.383 0.4,0.383 0.4,0.533
  region: 0.35,0.383 0.2,0.383 0.2,0.333 0.35,0.333
  region: -0.075,0.075 -0.075,-0.075 0.075,-0.075 0.075,0.075
  region: -0.075,-0.075 -0.075,0.075 -0.125,0.075 -0.125,-0.075
  rectangle: -0.075,0.075 0.075,0.125
  region: 0.075,0.075 0.075,-0.075 0.125,-0.075 0.125,0.075
  region: 0.075,-0.075 -0.075,-0.075 -0.075,-0.125 0.075,-0.125
  region: -0.35,-0.383 -0.35,-0.533 -0.2,-0.533 -0.2,-0.383
  region: -0.35,-0.533 -0.35,-0.383 -0.4,-0.383 -0.4,-0.533
  rectangle: -0.35,-0.383 -0.2,-0.333
  region: -0.2,-0.383 -0.2,-0.533 -0.15,-0.533 -0.15,-0.383
  region: -0.2,-0.533 -0.35,-0.533 -0.35,-0.583 -0.2,-0.583
  region: 0.2,-0.383 0.2,-0.533 0.35,-0.533 0.35,-0.383
  region: 0.2,-0.533 0.2,-0.383 0.15,-0.383 0.15,-0.533
  rectangle: 0.2,-0.383 0.35,-0.333
  region: 0.35,-0.383 0.35,-0.533 0.4,-0.533 0.4,-0.383
  region: 0.35,-0.533 0.2,-0.533 0.2,-0.583 0.35,-0.583
Mechanical 13:
  lines w0.1: -0.53,-0.695 -0.53,0.695 0.53,0.695 0.53,-0.695 -0.53,-0.695
Mechanical 15:
  lines w0.1: -0.5,0 0.5,0 ; 0,-0.5 0,0.5 ; -0.63,-0.795 -0.63,0.795 0.63,0.795 0.63,-0.795 -0.63,-0.795
3D body: height 0.68, standoff 0, extent -0.53,-0.695 0.53,0.695